# EAGLE library part BGS12SN6E6327XTSA1 (library Attenuator)
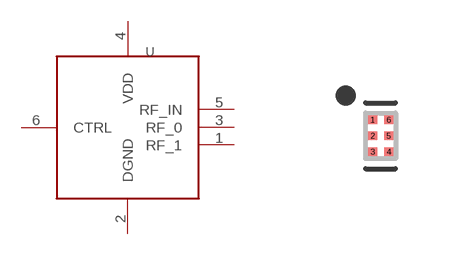
[diagram p2: symbol with the pads of SON40P70X110X40-6N; footprint SON40P70X110X40-6N]

Designator prefix U

## BGS12SN6E6327XTSA1  [SON40P70X110X40-6N]
1  RF_1
2  DGND
3  RF_0
4  VDD
5  RF_IN
6  CTRL

## Footprint SON40P70X110X40-6N (pad centres in mm)
6-SON (DFN), 0.40 mm pitch, 1.10 X 0.70 X 0.40 mm body 6-pin SON (DFN) package with 0.40 mm pitch with body size 1.10 X 0.70 X 0.40 mm
smd 0.22 x 0.22: 1 -0.2,0.4; 2 -0.2,0; 3 -0.2,-0.4; 4 0.2,-0.4; 5 0.2,0; 6 0.2,0.4